# EAGLE library part HP-5082-7415 (library custom_parts)
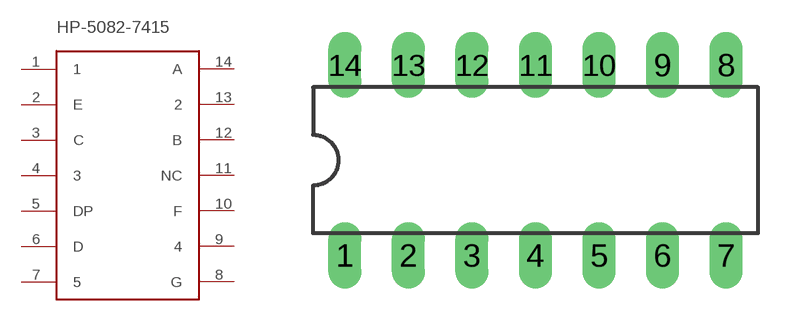
[diagram p0: symbol with the pads of DIL14; footprint DIL14]

Designator prefix -

## HP-5082-7415  [DIL14]
1  1
2  E
3  C
4  3
5  DP
6  D
7  5
8  G
9  4
10  F
11  NC
12  B
13  2
14  A

## Footprint DIL14 (pad centres in mm)
Dual In Line Package
drill 0.813 long: 1 -7.62,-3.81; 2 -5.08,-3.81; 3 -2.54,-3.81; 4 0,-3.81; 5 2.54,-3.81; 6 5.08,-3.81; 7 7.62,-3.81; 8 7.62,3.81; 9 5.08,3.81; 10 2.54,3.81; 11 0,3.81; 12 -2.54,3.81; 13 -5.08,3.81; 14 -7.62,3.81